# Altium footprint library 零散封装-V1.1.PcbLib: 19 footprints (part 2 of 2)
Each footprint in its own frame and in the unit in brackets; x right, y up, seen from the top. Pads: shape width x height; smd on the part's side, far side on the other; paste and mask are expansions set on the pad; w line width, h text height; cw(c..) or ccw(c..) is an arc to the next point about the centre after c.
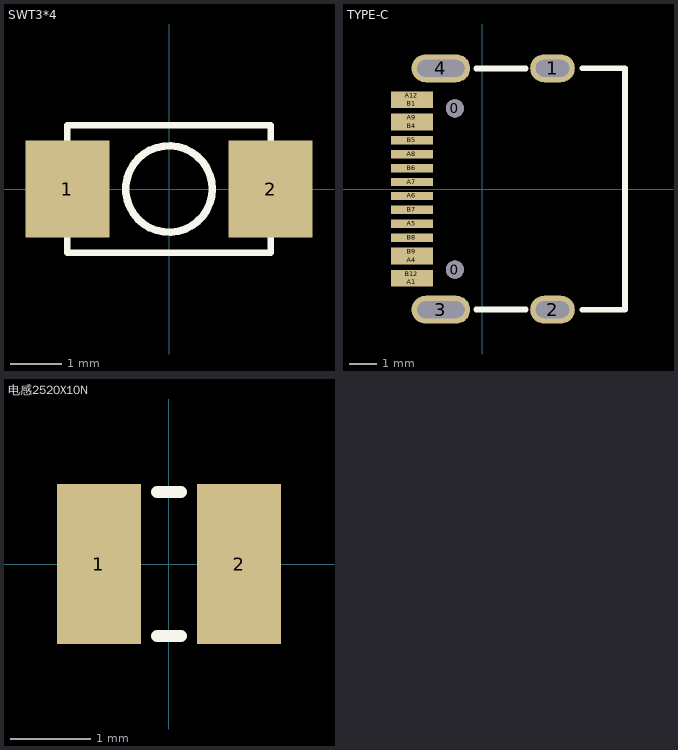
[diagram p1: the footprints below, top view; thin cyan lines are the x and y axes]

## SWT3*4 [mm]
pads (2):
  rect 1.65x1.9 smd: 1(-2,0) 2(2,0)
Top Overlay:
  circle w0.15: c0,0 r0.85
  lines w0.127: -2,-1.25 -2,1.25 2,1.25 2,-1.25 -2,-1.25
3D body "KEY-SMD3x4.STEP": height 2, standoff 0, extent -2.45,-1.452 2.45,1.448

## TYPE-C [mm]
pads (22):
  round 0.65 hole 0.65: 0(-0.98,-2.89) 0(-0.98,2.89)
  oval 1.6x1 hole 0.6 slot 1.2 at 0 deg: 1(2.52,4.325) 2(2.52,-4.325)
  oval 2.1x1 hole 0.6 slot 1.7 at 0 deg: 3(-1.48,-4.325) 4(-1.48,4.325)
  rect 1.5x0.3 smd: A1(-2.52,-3.35) A4(-2.52,-2.55) A5(-2.52,-1.25) A6(-2.52,-0.25) A7(-2.52,0.25) A8(-2.52,1.25) A9(-2.52,2.55) A12(-2.52,3.35) B1(-2.52,3.05) B4(-2.52,2.25) B5(-2.52,1.75) B6(-2.52,0.75) B7(-2.52,-0.75) B8(-2.52,-1.75) B9(-2.52,-2.25) B12(-2.52,-3.05)
Top Overlay:
  lines w0.203: -0.218,-4.318 1.56,-4.318 ; -0.218,4.318 1.56,4.318 ; 3.592,-4.325 5.12,-4.325 5.12,4.325 3.592,4.325
3D body "TypeC-SMD16P.STEP": height 3.36, standoff -0.9, extent -2.542,-4.458 5.209,4.492

## 电感2520X10N [mm] "Chip Capacitor, 2-Leads, Body 2.50x2.00mm, IPC Medium Density"
height 1
pads (2):
  rect 1.05x2 smd: 1(-0.875,0) 2(0.875,0)
Top Overlay:
  lines w0.152: -0.15,-0.9 0.15,-0.9 ; -0.15,0.9 0.15,0.9
3D body: height 0.25, standoff 0, extent -1.25,-1 1.25,1